# Altium schematic symbol library VS-20BQ030-M3.SchLib: 1 symbol
Pins are listed as number, name and electrical type; pins without a type are passive.

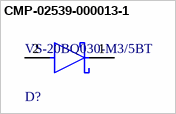
[diagram p0: symbol CMP-02539-000013-1]

## CMP-02539-000013-1
designator D?, comment VS-20BQ030-M3/5BT
DIODE SCHOTTKY 30V 2A SMB; Manufacturer: Vishay; Max Surge Forward Current: 75A; Standoff Height: 0mm; Capacitance: 200pF; Value: 200pF; Max Junction Temp: +150°C; Peak Reverse Current: 0.5mA; RoHS: TRUE; ComponentLink2URL: http://www.vishay.com/docs/93333/20bq030m.pdf; Temperature Range Low: -55°C; Mouser Description: Schottky Diodes & Rectifiers 2A 30V Single Die Schottky Rectifier; Footprint Url: http://www.vishay.com/docs/95401/smb.pdf; Octopart: https://octopart.com/vs-20bq030-m3%2F5bt-vishay-39003568; Height: 2.44mm; Device Class L2: Diodes; Max Repetitive Reverse Voltage: 30V; Reverse Voltage: 30V; Device Class L1: Discrete Semiconductors; Manufacturer Part Number: VS-20BQ030-M3/5BT; Device Class L3: Schottky Diodes; Forward Current: 2A; Digikey Description: DIODE SCHOTTKY 30V 2A SMB; Category: Diode; Lead Free: Yes; Automotive: No; ComponentLink2Description: Datasheet; Temperature Range High: +150°C; Package: 95401; Temperature: -55°C to +150°C
footprint FP-95401-MFG
pins: 1 C, 2 A